# Altium footprint library ARTIK-020-AV2.PcbLib: 1 footprints
Each footprint in its own frame and in the unit in brackets; x right, y up, seen from the top. Pads: shape width x height; smd on the part's side, far side on the other; paste and mask are expansions set on the pad; w line width, h text height; cw(c..) or ccw(c..) is an arc to the next point about the centre after c.
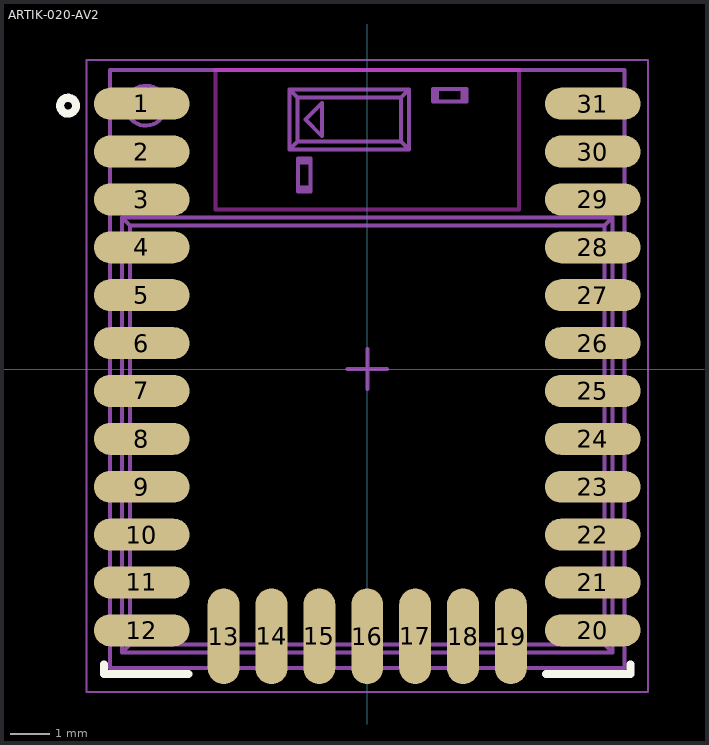
[diagram p0: the footprint, top view; thin cyan lines are the x and y axes]

## ARTIK-020-AV2 [mm]
pads (31):
  oval 2.4x0.8 smd: 1(-5.65,6.65) 2(-5.65,5.45) 3(-5.65,4.25) 4(-5.65,3.05) 5(-5.65,1.85) 6(-5.65,0.65) 7(-5.65,-0.55) 8(-5.65,-1.75) 9(-5.65,-2.95) 10(-5.65,-4.15) 11(-5.65,-5.35) 12(-5.65,-6.55) 20(5.65,-6.55) 21(5.65,-5.35) 22(5.65,-4.15) 23(5.65,-2.95) 24(5.65,-1.75) 25(5.65,-0.55) 26(5.65,0.65) 27(5.65,1.85) 28(5.65,3.05) 29(5.65,4.25) 30(5.65,5.45) 31(5.65,6.65)
  oval 0.8x2.4 smd: 13(-3.6,-6.7) 14(-2.4,-6.7) 15(-1.2,-6.7) 16(0,-6.7) 17(1.2,-6.7) 18(2.4,-6.7) 19(3.6,-6.7)
Top Overlay:
  circle w0.2: c-7.5,6.6 r0.2
  lines w0.2: -6.6,-7.4 -6.6,-7.65 -4.475,-7.65 ; 4.475,-7.65 6.6,-7.65 6.6,-7.4
Keep-Out Layer:
  lines w0.1: -3.8,4 -3.8,7.5 3.8,7.5 3.8,4 -3.8,4
Assembly Top:
  circle w0.1: c-5.55,6.6 r0.5
  lines w0.1: -6.15,-7.1 6.15,-7.1 ; -6.15,-7.1 -5.95,-6.9 ; -6.15,-7.1 -6.15,3.8 ; -6.15,3.8 6.15,3.8 ; -6.15,3.8 -5.95,3.6 ; -5.95,-6.9 5.95,-6.9 ; -5.95,-6.9 -5.95,3.6 ; -5.95,3.6 5.95,3.6 ; -1.95,5.5 1.05,5.5 ; -1.95,5.5 -1.95,7 ; -1.95,5.5 -1.75,5.7 ; -1.95,7 1.05,7 ; -1.95,7 -1.75,6.8 ; -1.75,5.7 0.85,5.7 ; -1.75,5.7 -1.75,6.8 ; -1.75,6.8 0.85,6.8 ; -1.737,4.546 -1.737,5.181 ; -1.737,4.546 -1.418,4.546 ; -1.737,4.546 -1.737,4.446 -1.418,4.446 -1.418,4.546 ; -1.737,5.181 -1.418,5.181 ; -1.737,5.181 -1.737,5.281 -1.418,5.281 -1.418,5.181 ; -1.418,4.546 -1.418,5.181 ; 0.85,5.7 0.85,6.8 ; 0.85,5.7 1.05,5.5 ; 0.85,6.8 1.05,7 ; 1.05,5.5 1.05,7 ; 1.747,6.7 2.382,6.7 ; 1.747,6.7 1.747,7.019 ; 1.747,6.7 1.647,6.7 1.647,7.019 1.747,7.019 ; 1.747,7.019 2.382,7.019 ; 2.382,6.7 2.382,7.019 ; 2.382,6.7 2.482,6.7 2.482,7.019 2.382,7.019 ; 5.95,-6.9 6.15,-7.1 ; 5.95,-6.9 5.95,3.6 ; 5.95,3.6 6.15,3.8 ; 6.15,-7.1 6.15,3.8 ; -6.45,-7.5 6.45,-7.5 6.45,7.5 -6.45,7.5 -6.45,-7.5 ; -1.545,6.25 -1.129,5.834 -1.129,6.666 -1.545,6.25
Courtyard Top:
  lines w0.05: -7.035,-8.1 -7.035,7.75 7.035,7.75 7.035,-8.1 -7.035,-8.1
  lines w0.1: -0.5,0 0.5,0 ; 0,-0.5 0,0.5
3D body "User Library-BGM111-1.STEP": height 2.21, standoff 0, extent -6.45,-7.525 6.45,7.475